# Altium schematic symbol library Diode_BAT54C___.SchLib: 1 symbol
Pins are listed as number, name and electrical type; pins without a type are passive.

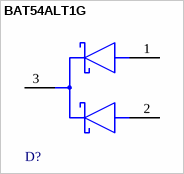
[diagram p0: symbol BAT54ALT1G]

## BAT54ALT1G
designator D?  (value not drawn)
footprint INF-SOT23_L (SOT23, 3-Leads, Body 2.9x1.3 mm, Pitch 0.95 mm, IPC High Density)
pins: 1 1 CATHODE, 2 2 CATHODE, 3 A